# Altium schematic symbol library IC_ESD.SchLib: 11 symbols
Pins are listed as number, name and electrical type; pins without a type are passive.

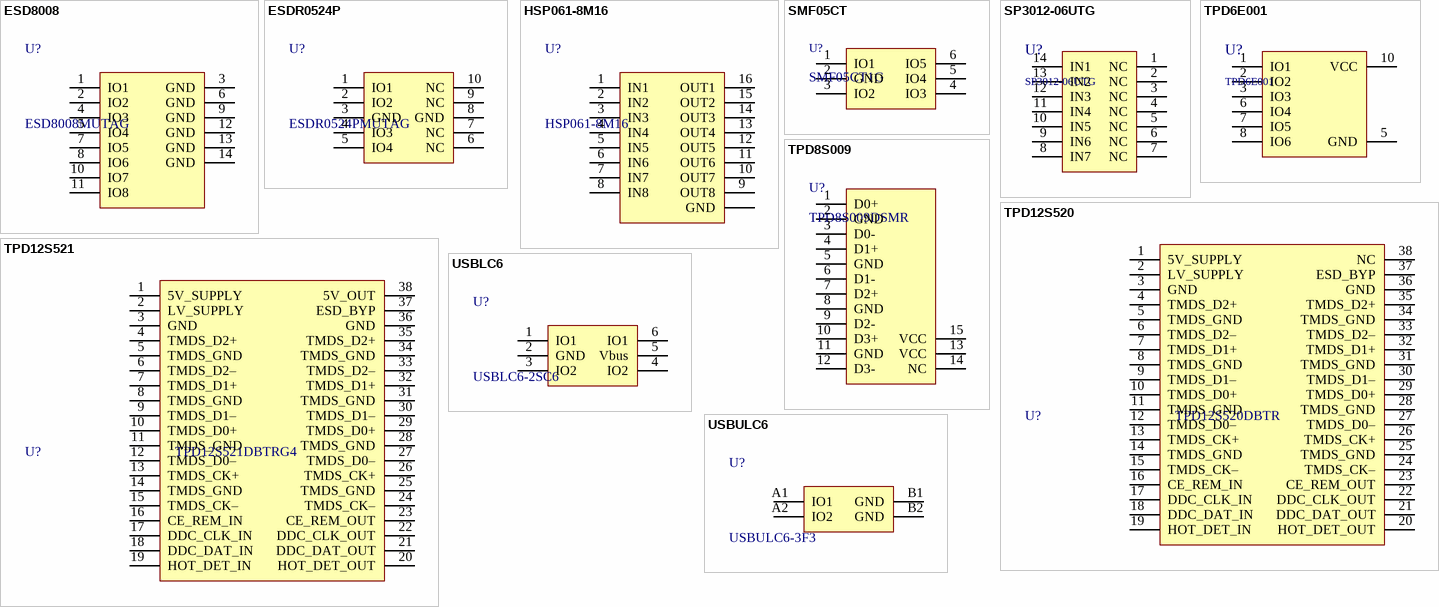
[diagram p0: symbols ESD8008 to USBULC6]

## ESD8008
designator U?, comment ESD8008MUTAG
Low Capacitance Array for High Speed  Data Lines; Capacitance: 0.35pF; Frequency: 11GHz; HelpURL: https://www.onsemi.com/pub/Collateral/ESD8008-D.PDF; Name: ESD8008MUTAG; BOMString: ESD8008MUTAG; Supplier: https://www.digikey.com/product-detail/en/on-semiconductor/ESD8008MUTAG/ESD8008MUTAGOSTR-ND/4810861
footprint DFN-22-0.5-5.5x1.5_11/3 (UDFN14)
pins: 1 IO1, 2 IO2, 3 GND, 4 IO3, 5 IO4, 6 GND, 7 IO5, 8 IO6, 9 GND, 10 IO7, 11 IO8, 12 GND, 13 GND, 14 GND

## ESDR0524P
designator U?, comment ESDR0524PMUTAG
Low Capacitance ESD Protection for  High Speed Data; Capacitance: 0.6pF; Frequency: 9GHz; HelpURL: https://www.onsemi.com/pub/Collateral/ESDR0524P-D.PDF; Name: ESDR0524PMUTAG; BOMString: ESDR0524PMUTAG; Supplier: https://www.digikey.com/product-detail/en/on-semiconductor/ESDR0524PMUTAG/ESDR0524PMUTAGOSTR-ND/2401301
footprint DFN-10-0.5-2.5x1 (SON, 10-Leads, Body 2,50x1,00mm, Pitch 0,50mm, IPC High Density)
pins: 1 IO1, 2 IO2, 3 GND, 4 IO3, 5 IO4, 6 NC, 7 NC, 8 GND, 9 NC, 10 NC

## HSP061-8M16
designator U?
8-line ESD protection for high speed lines; Capacitance: 0.6pF; Frequency: 6.3GHz; HelpURL: http://www.st.com/content/ccc/resource/technical/document/datasheet/42/0d/9a/ef/a1/41/4b/25/CD00286837.pdf/files/CD00286837.pdf/jcr:content/translations/en.CD00286837.pdf; Name: HSP061-8M16; BOMString: HSP061-8M16; Supplier: https://www.digikey.com/product-detail/en/stmicroelectronics/HSP061-8M16/497-11044-1-ND/2529260
footprint SON-16-0.4_3.3x1.5
pins: 0 GND, 1 IN1, 2 IN2, 3 IN3, 4 IN4, 5 IN5, 6 IN6, 7 IN7, 8 IN8, 9 OUT8, 10 OUT7, 11 OUT6, 12 OUT5, 13 OUT4, 14 OUT3, 15 OUT2, 16 OUT1

## SMF05CT
designator U?, comment SMF05CT1G
5-Line Transient Voltage / Suppressor Array; Manufacturer: ST; Name: SMF05CT1G; BOMString: SMF05CT1G; Supplier: https://www.chipdip.ru/product/smf05ct1g; HelpURL: https://ru.mouser.com/datasheet/2/308/SMF05C_D-1814984.pdf
footprint SOT-363 (SOT23, 6-Leads, Body 2,00x2,10mm, Pitch 0,60mm, IPC High Density)
pins: 1 IO1, 2 GND, 3 IO2, 4 IO3, 5 IO4, 6 IO5

## SP3012-06UTG
designator U?
Low Capacitance ESD Protection for USB3.0; Name: SP3012-06UTG; HelpURL: https://m.littelfuse.com/~/media/electronics/datasheets/tvs_diode_arrays/littelfuse_tvs_diode_array_sp3012_datasheet.pdf.pdf
footprint DFN-14-0.5-3.5x1.3
pins: 1 NC, 2 NC, 3 NC, 4 NC, 5 NC, 6 NC, 7 NC, 8 IN7, 9 IN6, 10 IN5, 11 IN4, 12 IN3, 13 IN2, 14 IN1

## TPD6E001
designator U?
Low-Capacitance 6-ch ESD for HiSpeed Interfaces; Capacitance: 1.5pF; ReverseVoltage: 5V; Name: TPD6E001; HelpURL: http://www.ti.com/lit/ds/symlink/tpd6e001.pdf
footprint QFN-10-0.5-2x1.5_4/1 (QFN, 10-Leads, Body 1,50x2,00mm, Pitch 0,50mm, IPC Medium Density)
pins: 1 IO1, 2 IO2, 3 IO3, 5 GND, 6 IO4, 7 IO5, 8 IO6, 10 VCC

## TPD8S009
designator U?, comment TPD8S009DSMR
8-Channel ESD Protection for DisplayPort and HDMI; HelpURL: http://www.ti.com/lit/ds/symlink/tpd8s009.pdf; Name: TPD8S009DSMR; Supplier: https://www.digikey.com/product-detail/en/texas-instruments/TPD8S009DSMR/296-23829-1-ND/1958765; BOMString: TPD8S009DSMR
footprint SON-15-0.5-6.5x2.5_12/3 (SON, 24-Leads, Body 6,50x2,50mm, Pitch 0,50mm, IPC Medium Density)
pins: 1 D0+, 2 GND, 3 D0-, 4 D1+, 5 GND, 6 D1-, 7 D2+, 8 GND, 9 D2-, 10 D3+, 11 GND, 12 D3-, 13 VCC, 14 NC, 15 VCC

## TPD12S520
designator U?, comment TPD12S520DBTR
HDMI ESD protection device; Name: TPD12S520DBTR; BOMString: TPD12S520DBTR; Supplier: https://www.digikey.com/product-detail/en/texas-instruments/TPD12S520DBTR/296-23617-1-ND/1913505; HelpURL: http://www.ti.com/lit/ds/symlink/tpd12s520.pdf
footprint TSSOP-38-0.5 (TSSOP, 38-Leads, Body 9,70x4,40mm, Pitch 0,50mm)
pins: 1 5V_SUPPLY, 2 LV_SUPPLY, 3 GND, 4 TMDS_D2+, 5 TMDS_GND, 6 TMDS_D2–, 7 TMDS_D1+, 8 TMDS_GND, 9 TMDS_D1–, 10 TMDS_D0+, 11 TMDS_GND, 12 TMDS_D0–, 13 TMDS_CK+, 14 TMDS_GND, 15 TMDS_CK–, 16 CE_REM_IN, 17 DDC_CLK_IN, 18 DDC_DAT_IN, 19 HOT_DET_IN, 20 HOT_DET_OUT, 21 DDC_DAT_OUT, 22 DDC_CLK_OUT, 23 CE_REM_OUT, 24 TMDS_CK–, 25 TMDS_GND, 26 TMDS_CK+, 27 TMDS_D0–, 28 TMDS_GND, 29 TMDS_D0+, 30 TMDS_D1–, 31 TMDS_GND, 32 TMDS_D1+, 33 TMDS_D2–, 34 TMDS_GND, 35 TMDS_D2+, 36 GND, 37 ESD_BYP, 38 NC

## TPD12S521
designator U?, comment TPD12S521DBTRG4
HDMI ESD protection device; Name: TPD12S521DBTRG4; BOMString: TPD12S521DBTRG4; Supplier: https://www.digikey.com/product-detail/en/texas-instruments/TPD12S521DBTRG4/296-52789-1-ND/9860368; HelpURL: http://www.ti.com/lit/ds/symlink/tpd12s521.pdf
footprint TSSOP-38-0.5 (TSSOP, 38-Leads, Body 9,70x4,40mm, Pitch 0,50mm)
pins: 1 5V_SUPPLY, 2 LV_SUPPLY, 3 GND, 4 TMDS_D2+, 5 TMDS_GND, 6 TMDS_D2–, 7 TMDS_D1+, 8 TMDS_GND, 9 TMDS_D1–, 10 TMDS_D0+, 11 TMDS_GND, 12 TMDS_D0–, 13 TMDS_CK+, 14 TMDS_GND, 15 TMDS_CK–, 16 CE_REM_IN, 17 DDC_CLK_IN, 18 DDC_DAT_IN, 19 HOT_DET_IN, 20 HOT_DET_OUT, 21 DDC_DAT_OUT, 22 DDC_CLK_OUT, 23 CE_REM_OUT, 24 TMDS_CK–, 25 TMDS_GND, 26 TMDS_CK+, 27 TMDS_D0–, 28 TMDS_GND, 29 TMDS_D0+, 30 TMDS_D1–, 31 TMDS_GND, 32 TMDS_D1+, 33 TMDS_D2–, 34 TMDS_GND, 35 TMDS_D2+, 36 GND, 37 ESD_BYP, 38 5V_OUT

## USBLC6
designator U?, comment USBLC6-2SC6
USB ESD protection; Capacitance: 3.5pF; Name: USBLC6-2SC6; Supplier: https://www.digikey.com/product-detail/en/stmicroelectronics/USBLC6-2SC6/497-5235-1-ND/1121688; HelpURL: https://www.st.com/content/ccc/resource/technical/document/datasheet/06/1d/48/9c/6c/20/4a/b2/CD00050750.pdf/files/CD00050750.pdf/jcr:content/translations/en.CD00050750.pdf; BOMString: USBLC6-2SC6
footprint SOT-666
footprint SOT-23-6
pins: 1 IO1, 2 GND, 3 IO2, 4 IO2, 5 Vbus, 6 IO1

## USBULC6
designator U?, comment USBULC6-3F3
USB ESD protection; Capacitance: 1.5pF; Name: USBULC6-3F3; BOMString: USBULC6-3F3; HelpURL: https://www.st.com/content/ccc/resource/technical/document/datasheet/fa/50/1d/1a/59/94/40/1e/CD00275885.pdf/files/CD00275885.pdf/jcr:content/translations/en.CD00275885.pdf; Supplier: https://www.digikey.com/product-detail/en/stmicroelectronics/USBULC6-3F3/497-10886-1-ND/2504647
footprint WLCSP4_0.84_0.4
pins: A1 IO1, A2 IO2, B1 GND, B2 GND